# EAGLE library part IDT7205 (library mbed-microcontroller)
IDT7205 FiFo Puffer 8096Byte
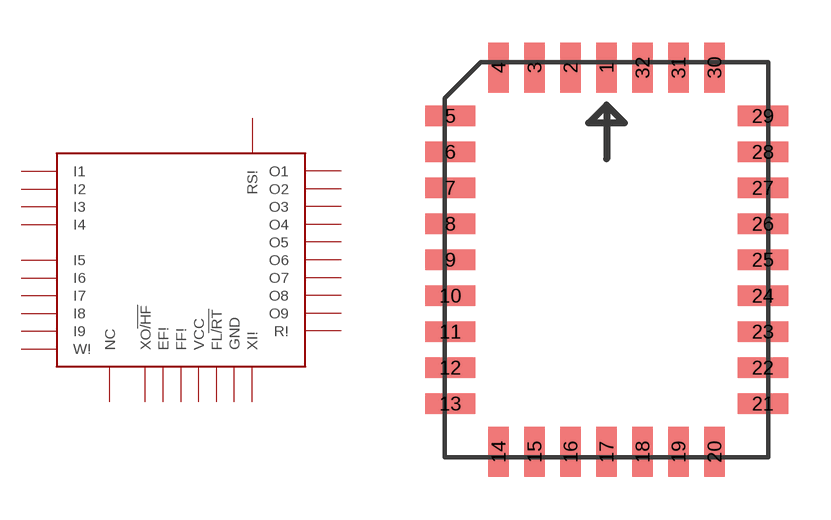
[diagram p14: symbol with the pads of PLCC32; footprint PLCC32]

Designator prefix -

## IDT7205  [PLCC32]
1  NC
2  W!
3  I9
4  I4
5  I3
6  I2
7  I1
8  XI!
9  FF!
10  O1
11  O2
12  NC
13  O3
14  O4
15  O9
16  GND
17  NC
18  R!
19  O5
20  O6
21  O7
22  O8
23  XO!/HF!
24  EF!
25  RS!
26  FL!/RT!
27  NC
28  I8
29  I7
30  I6
31  I5
32  VCC

## Footprint PLCC32 (pad centres in mm)
smd 0.71 x 1.78: 1 0,6.785; 2 -1.27,6.785; 3 -2.54,6.785; 4 -3.81,6.785; 14 -3.81,-6.785; 15 -2.54,-6.785; 16 -1.27,-6.785; 17 0,-6.785; 18 1.27,-6.785; 19 2.54,-6.785; 20 3.81,-6.785; 30 3.81,6.785; 31 2.54,6.785; 32 1.27,6.785
smd 1.78 x 0.71: 5 -5.515,5.08; 6 -5.515,3.81; 7 -5.515,2.54; 8 -5.515,1.27; 9 -5.515,0; 10 -5.515,-1.27; 11 -5.515,-2.54; 12 -5.515,-3.81; 13 -5.515,-5.08; 21 5.515,-5.08; 22 5.515,-3.81; 23 5.515,-2.54; 24 5.515,-1.27; 25 5.515,0; 26 5.515,1.27; 27 5.515,2.54; 28 5.515,3.81; 29 5.515,5.08